# EAGLE library part 8P8C-TRAF (library 042_ret)
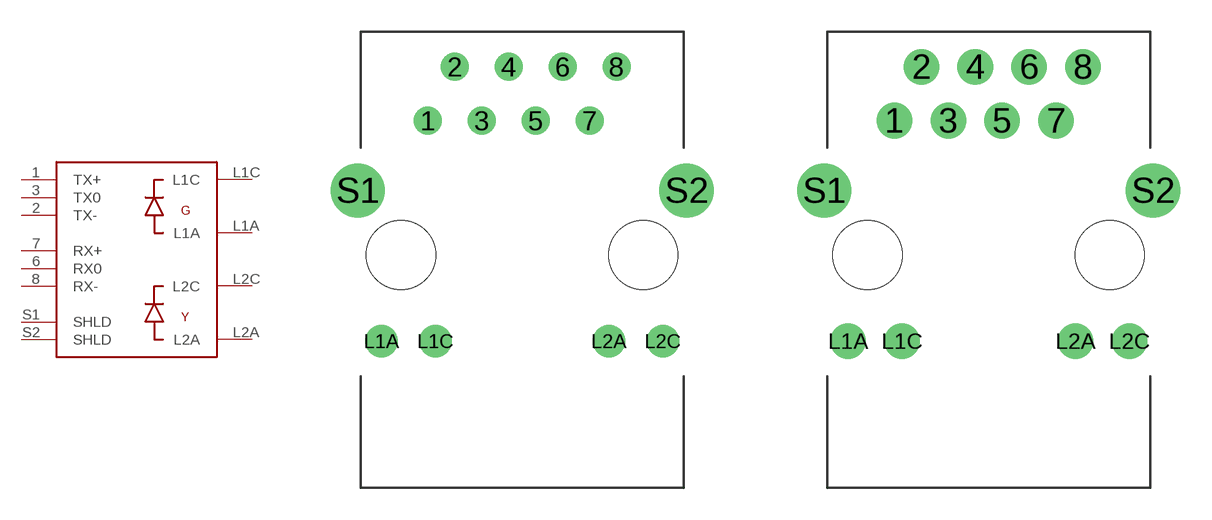
[diagram p0: symbol with the pads of 8P8C-TRAF; footprints 8P8C-TRAF, 8P8C-TRAF-LP]

Designator prefix J

## 8P8C-TRAF  [8P8C-TRAF]
1  TX+
2  TX-
3  TX0
6  RX0
7  RX+
8  RX-
L1A  L1A
L1C  L1C
L2A  L2A
L2C  L2C
S1  SHLD
S2  SHLD

## 8P8C-TRAFLP  [8P8C-TRAF-LP]
Pads as for 8P8C-TRAF

## Footprint 8P8C-TRAF (pad centres in mm)
drill 0.813: 1 -4.445,6.35; 2 -3.175,8.89; 3 -1.905,6.35; 4 -0.635,8.89; 5 0.635,6.35; 6 1.905,8.89; 7 3.175,6.35; 8 4.445,8.89
drill 1.016: L1A -6.629,-4.064; L1C -4.089,-4.064; L2A 4.089,-4.064; L2C 6.629,-4.064
drill 1.702: S1 -7.747,3.048; S2 7.747,3.048
hole 3.251 at -5.715,0
hole 3.251 at 5.715,0

## Footprint 8P8C-TRAF-LP (pad centres in mm)
drill 0.813 pad 1.676: 1 -4.445,6.35; 2 -3.175,8.89; 3 -1.905,6.35; 4 -0.635,8.89; 5 0.635,6.35; 6 1.905,8.89; 7 3.175,6.35; 8 4.445,8.89
drill 1.016 pad 1.676: L1A -6.629,-4.064; L1C -4.089,-4.064; L2A 4.089,-4.064; L2C 6.629,-4.064
drill 1.702: S1 -7.747,3.048; S2 7.747,3.048
hole 3.251 at -5.715,0
hole 3.251 at 5.715,0